# Altium footprint library PCB - LEADLESS - DFN - MICRON VDFPN-8 (MLP8) (8x6) F8.PCBLIB: 1 footprints
Each footprint in its own frame and in the unit in brackets; x right, y up, seen from the top. Pads: shape width x height; smd on the part's side, far side on the other; paste and mask are expansions set on the pad; w line width, h text height; cw(c..) or ccw(c..) is an arc to the next point about the centre after c.
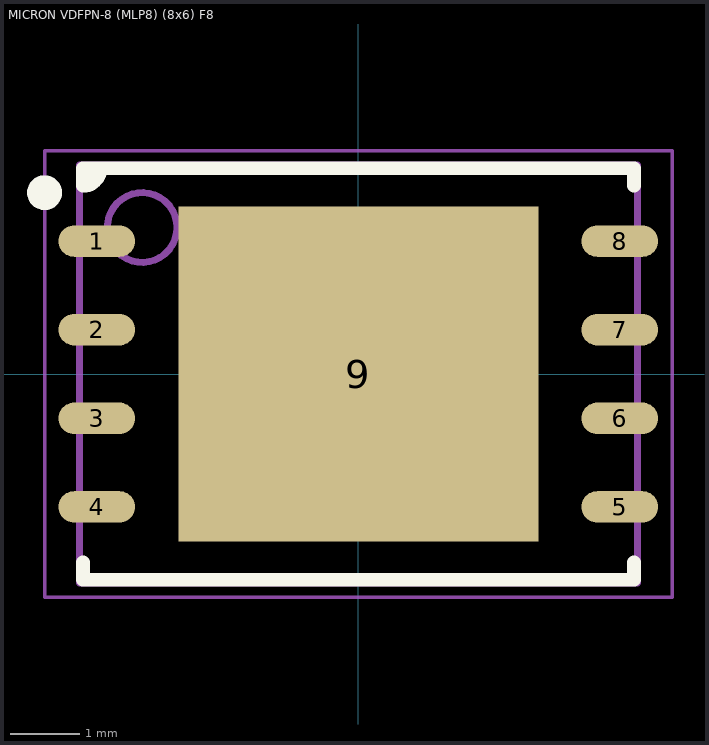
[diagram p0: the footprint, top view; thin cyan lines are the x and y axes]

## MICRON VDFPN-8 (MLP8) (8x6) F8 [mm] "V-PDFN-8 8mm x 6mm (MLP8) – Package Code: F8, 8-Leads, Body 8.00x6.00mm, Pitch 1.27mm, Thermal Pad 5.16x4.80mm, IPC Medium Density"
height 1
pads (9):
  oval 1.1x0.45 smd: 1(-3.75,1.905) 2(-3.75,0.635) 3(-3.75,-0.635) 4(-3.75,-1.905) 5(3.75,-1.905) 6(3.75,-0.635) 7(3.75,0.635) 8(3.75,1.905)
  rect 5.16x4.8 smd paste-2.58: 9(0,0)
Top Overlay:
  circle w0.25: c-4.5,2.6 r0.125
  region: -3.95,2.95 -3.7,2.95 -3.95,2.7
  lines w0.2: -3.95,-2.7 -3.95,-2.95 3.95,-2.95 3.95,-2.7 ; -3.7,2.95 cw(c-3.95,2.95) -3.95,2.7 -3.95,2.95 3.95,2.95 3.95,2.7
Top Paste:
  rectangle: -2.48,1.3 -1.39,2.3
  rectangle: -2.48,0.1 -1.39,1.1
  rectangle: -2.48,-1.1 -1.39,-0.1
  rectangle: -2.48,-2.3 -1.39,-1.3
  rectangle: -1.19,1.3 -0.1,2.3
  rectangle: -1.19,0.1 -0.1,1.1
  rectangle: -1.19,-1.1 -0.1,-0.1
  rectangle: -1.19,-2.3 -0.1,-1.3
  rectangle: 0.1,1.3 1.19,2.3
  rectangle: 0.1,0.1 1.19,1.1
  rectangle: 0.1,-1.1 1.19,-0.1
  rectangle: 0.1,-2.3 1.19,-1.3
  rectangle: 1.39,1.3 2.48,2.3
  rectangle: 1.39,0.1 2.48,1.1
  rectangle: 1.39,-1.1 2.48,-0.1
  rectangle: 1.39,-2.3 2.48,-1.3
Mechanical 13:
  circle w0.1: c-3.1,2.1 r0.5
  lines w0.1: -4,-3 -4,3 4,3 4,-3 -4,-3
Mechanical 15:
  lines w0.05: -4.5,-3.2 -4.5,3.2 4.5,3.2 4.5,-3.2 -4.5,-3.2
  lines w0.1: -0.5,0 0.5,0 ; 0,-0.5 0,0.5
3D body "Micron - V-DFPN-8 MLP8 F8.step": height 1, standoff 0, extent -4.025,-3 4.025,3